# EAGLE library part P7LP-156L (library Lasser)
Coilcraft P7LP-156L Low Pass LC Filter Module 7 poliges elliptisches Filter mit 15MHz 3dB Grenzfrequenz.
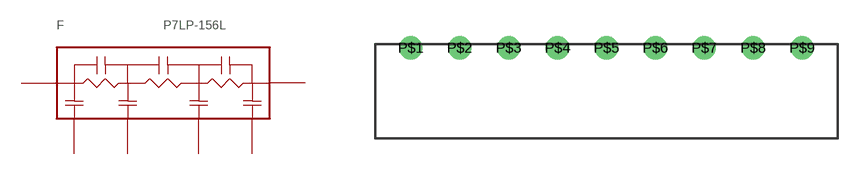
[diagram p4: symbol with the pads of COILCRAFTFILTER; footprint COILCRAFTFILTER]

Designator prefix F

## P7LP-156L  [COILCRAFTFILTER]
P$1  P$1
P$2  P$2
P$4  P$3
P$6  P$4
P$8  P$5
P$9  P$6

## Footprint COILCRAFTFILTER (pad centres in mm)
drill 0.7 round: P$1 -10.16,0; P$2 -7.62,0; P$3 -5.08,0; P$4 -2.54,0; P$5 0,0; P$6 2.54,0; P$7 5.08,0; P$8 7.62,0; P$9 10.16,0